# Altium schematic symbol library MOSFET .SchLib: 16 symbols
Pins are listed as number, name and electrical type; pins without a type are passive.

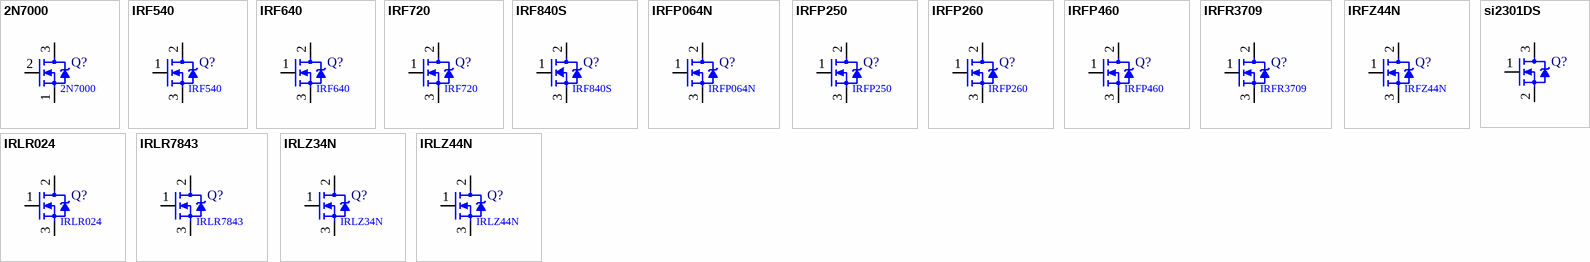
[diagram p0: symbols 2N7000 to si2301DS]

## 2N7000
designator Q?  value 2N7000
DatasheetVersion: 2022
pins: 1 S, 2 G, 3 D

## IRF540
designator Q?  value IRF540
DatasheetVersion: 2022
pins: 1 G, 2 D, 3 S

## IRF640
designator Q?  value IRF640
DatasheetVersion: 2022
pins: 1 G, 2 D, 3 S

## IRF720
designator Q?  value IRF720
DatasheetVersion: 2022
pins: 1 G, 2 D, 3 S

## IRF840S
designator Q?  value IRF840S
DatasheetVersion: 2022
footprint TO-263-2 (D2PAK_L10.2-W9.0-P5.08-LS16.9-BR)
pins: 1 G, 2 D, 3 S

## IRFP064N
designator Q?  value IRFP064N
DatasheetVersion: 2022
pins: 1 G, 2 D, 3 S

## IRFP250
designator Q?  value IRFP250
DatasheetVersion: 2022
pins: 1 G, 2 D, 3 S

## IRFP260
designator Q?  value IRFP260
DatasheetVersion: 2022
pins: 1 G, 2 D, 3 S

## IRFP460
designator Q?  value IRFP460
DatasheetVersion: 2022
pins: 1 G, 2 D, 3 S

## IRFR3709
designator Q?  value IRFR3709
DatasheetVersion: 2022
pins: 1 G, 2 D, 3 S

## IRFZ44N
designator Q?  value IRFZ44N
DatasheetVersion: 2022
pins: 1 G, 2 D, 3 S

## IRLR024
designator Q?  value IRLR024
DatasheetVersion: 2022
pins: 1 G, 2 D, 3 S

## IRLR7843
designator Q?  value IRLR7843
DatasheetVersion: 2022
pins: 1 G, 2 D, 3 S

## IRLZ34N
designator Q?  value IRLZ34N
DatasheetVersion: 2022
pins: 1 G, 2 D, 3 S

## IRLZ44N
designator Q?  value IRLZ44N
DatasheetVersion: 2022
pins: 1 G, 2 D, 3 S

## si2301DS
designator Q?
DatasheetVersion: 2022
footprint SOT-323-3
pins: 1 G, 2 S, 3 D